# Altium schematic symbol library board.SchLib: 12 symbols
Pins are listed as number, name and electrical type; pins without a type are passive.

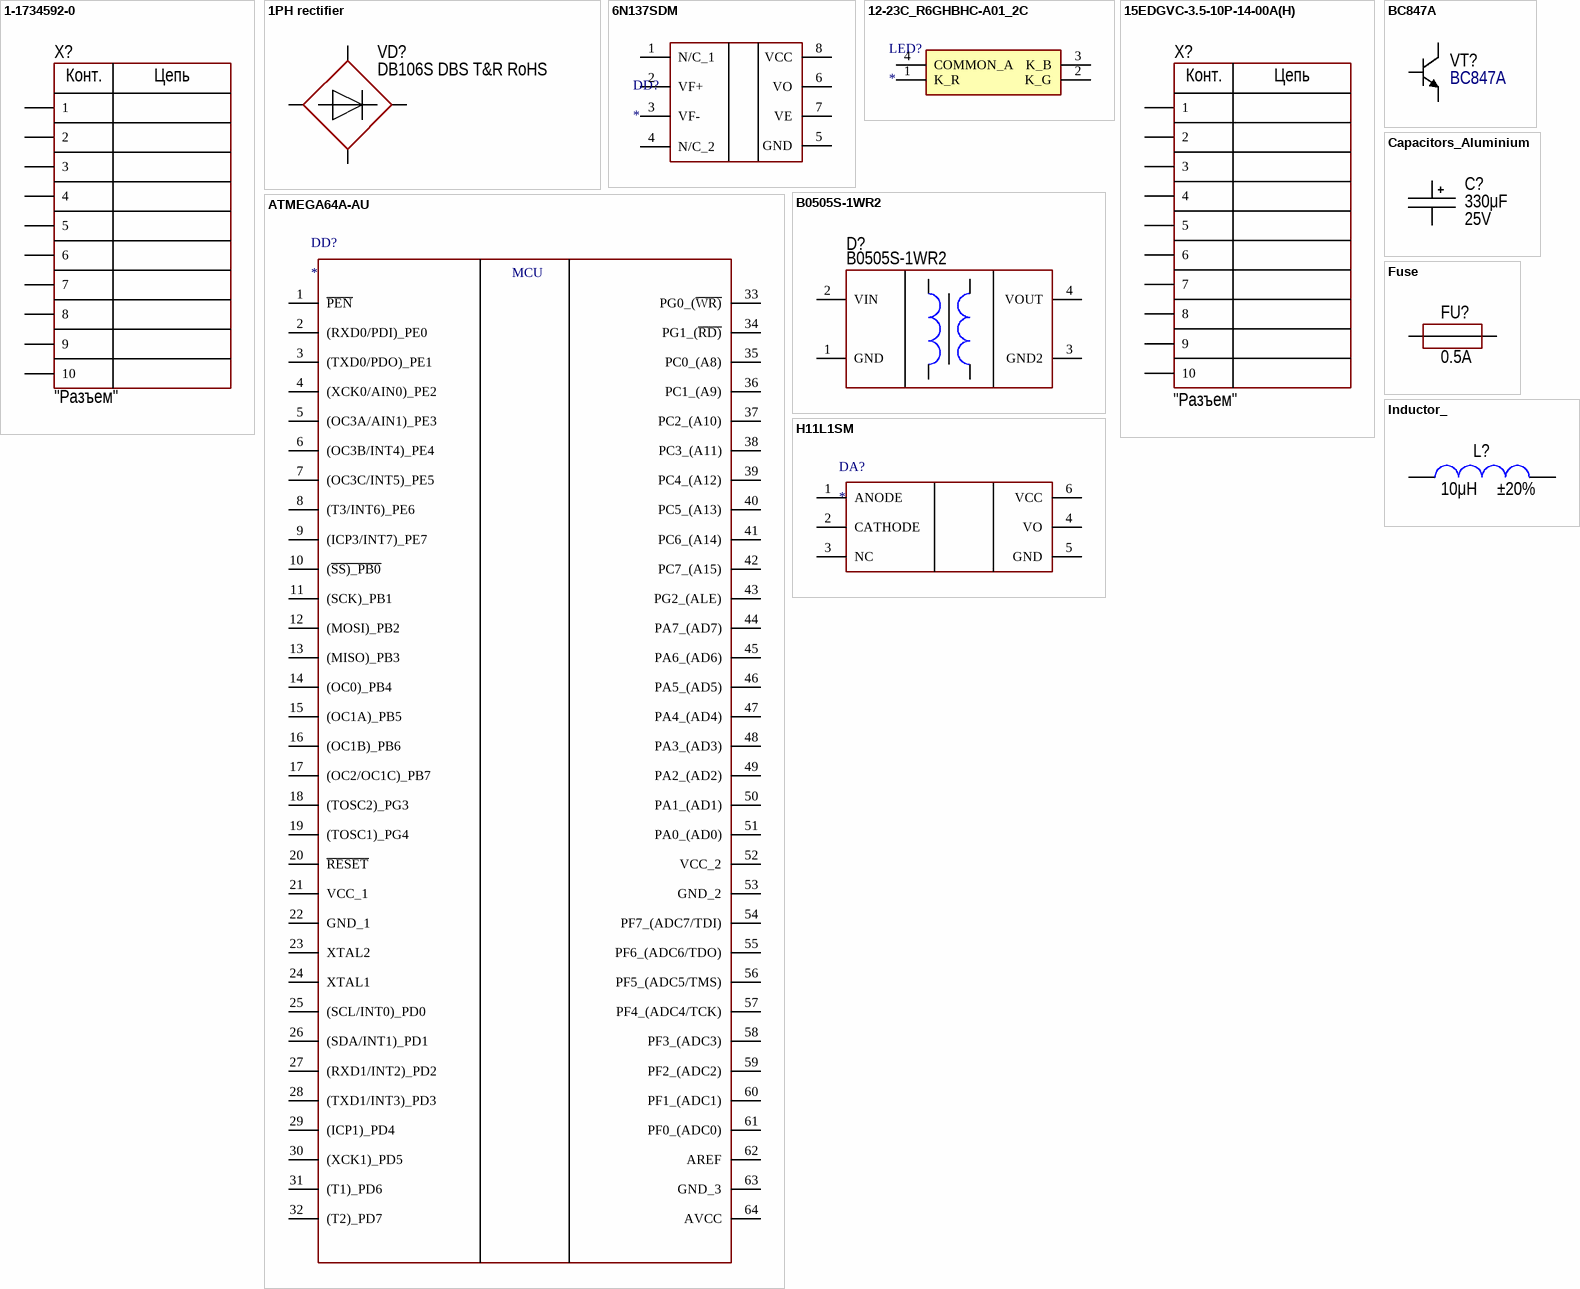
[diagram p0: symbols 1-1734592-0 to Inductor_]

## 1-1734592-0
designator X?  CommentText: "Разъем"
Manufacturer: TE Connectivity AMP Connectors; ValueManufacturerPartNumber: Connector, 10pin, 0.5mm, 250VAC, 0.5A; PartNumber: 1-1734592-0; TypeConnector: Connector; VoltageMax: 250VAC; Pitch: 0.5mm; CurrentMax: 0.5A; Multichannel: 10pin; HelpURL: https://www.digikey.com/en/products/detail/te-connectivity-amp-connectors/1-1734592-0/1860492
footprint 1-1734592-0
pins: 1, 2, 3 (power), 4 (power), 5 (power), 6 (power), 7 (power), 8 (power), 9 (power), 10 (power)
text: Конт.; Цепь

## 1PH rectifier
designator VD?  PartNumber: DB106S DBS T&R RoHS
Manufacturer: Kingtronics International; ValueManufacturerPartNumber: Single phase rectifier, 800V, 1A, 1.1V, 4-SMD, -55...+150°C; TypeDiode: Single phase rectifier; Voltage: 800V; Current: 1A; VoltageDrop: 1.1V; Package: 4-SMD; HelpURL: https://www.chipdip.ru/product/db106s-kingtronics?from=suggest_product; Temperature: -55...+150°C
footprint DIODE: DF206S-G
pins: 1, 2, 3, 4

## 6N137SDM
designator DD?
Integrated Circuit; Manufacturer_Name: ON Semiconductor; PartNumber: 6N137SDM; Datasheet Link: https://www.onsemi.com/pub/Collateral/HCPL2631M-D.pdf; Height: 5.08mm; Mouser Part Number: 512-6N137SDM; Mouser Price/Stock: https://www.mouser.co.uk/ProductDetail/ON-Semiconductor-Fairchild/6N137SDM?qs=wuRI32rFNSFC%252BTbDLj3kvw%3D%3D; Arrow Part Number: 6N137SDM; Arrow Price/Stock: https://www.arrow.com/en/products/6n137sdm/on-semiconductor?region=nac
footprint SOP254P1030X508-8N
pins: 1 N/C_1, 2 VF+, 3 VF-, 4 N/C_2, 5 GND, 6 VO, 7 VE, 8 VCC

## 12-23C_R6GHBHC-A01_2C
designator LED?
LED; Manufacturer_Name: Everlight; Manufacturer_Part_Number: 12-23C/R6GHBHC-A01/2C; Datasheet Link: https://www.mouser.com/datasheet/2/143/201407052004528767-596438.pdf; Height: 1mm; Mouser Part Number: 638-1223CR6GHBHCA01; Mouser Price/Stock: https://www.mouser.co.uk/ProductDetail/Everlight/12-23C-R6GHBHC-A01-2C?qs=8cKuZ6Ok2lYDdF2%2FKIJDyw%3D%3D; Arrow Part Number: 12-23C/R6GHBHC-A01/2C; Arrow Price/Stock: https://www.arrow.com/en/products/12-23cr6ghbhc-a012c/everlight-electronics
footprint 1223CR6GHBHCA012C
pins: 1 K_R, 2 K_G, 3 K_B, 4 COMMON_A

## 15EDGVC-3.5-10P-14-00A(H)
designator X?  CommentText: "Разъем"
Manufacturer: Degson; ValueManufacturerPartNumber: Terminal connector, 6pin, 3.5mm, 300VAC, 10A; PartNumber: 15EDGVC-3.5-10P-14-00A(H); TypeConnector: Terminal connector; VoltageMax: 300VAC; Pitch: 3.5mm; CurrentMax: 10A; Multichannel: 6pin
footprint CON: 15EDGVC-3.5-10P-14-00AH (Vertical PCB Header, pitch 3.5mm, 08p)
pins: 1, 2, 3 (power), 4 (power), 5 (power), 6 (power), 7 (power), 8 (power), 9 (power), 10 (power)
text: Конт.; Цепь

## ATMEGA64A-AU
designator DD?
Integrated Circuit; Manufacturer_Name: Microchip; Manufacturer_Part_Number: ATMEGA64A-AU; Datasheet Link: https://datasheet.datasheetarchive.com/originals/distributors/Datasheets_SAMA/61cd3663d987104d1956c12d3ceac457.pdf; Height: 1.2mm; Mouser Part Number: 556-ATMEGA64A-AU; Mouser Price/Stock: https://www.mouser.co.uk/ProductDetail/Microchip-Technology-Atmel/ATMEGA64A-AU?qs=RwPDB89%252B8xSA448I6y2Ecg%3D%3D; Part Number: ATMEGA64A-AU; Arrow Price/Stock: https://www.arrow.com/en/products/atmega64a-au/microchip-technology?region=nac
footprint QFP80P1600X1600X120-64N
pins: 1 ~{PEN}, 2 (RXD0/PDI)_PE0, 3 (TXD0/PDO)_PE1, 4 (XCK0/AIN0)_PE2, 5 (OC3A/AIN1)_PE3, 6 (OC3B/INT4)_PE4, 7 (OC3C/INT5)_PE5, 8 (T3/INT6)_PE6, 9 (ICP3/INT7)_PE7, 10 (~{SS)_PB0}, 11 (SCK)_PB1, 12 (MOSI)_PB2, 13 (MISO)_PB3, 14 (OC0)_PB4, 15 (OC1A)_PB5, 16 (OC1B)_PB6, 17 (OC2/OC1C)_PB7, 18 (TOSC2)_PG3, 19 (TOSC1)_PG4, 20 ~{RESET}, 21 VCC_1, 22 GND_1, 23 XTAL2, 24 XTAL1, 25 (SCL/INT0)_PD0, 26 (SDA/INT1)_PD1, 27 (RXD1/INT2)_PD2, 28 (TXD1/INT3)_PD3, 29 (ICP1)_PD4, 30 (XCK1)_PD5, 31 (T1)_PD6, 32 (T2)_PD7, 33 PG0_(~{WR)}, 34 PG1_(~{RD)}, 35 PC0_(A8), 36 PC1_(A9), 37 PC2_(A10), 38 PC3_(A11), 39 PC4_(A12), 40 PC5_(A13), 41 PC6_(A14), 42 PC7_(A15), 43 PG2_(ALE), 44 PA7_(AD7), 45 PA6_(AD6), 46 PA5_(AD5), 47 PA4_(AD4), 48 PA3_(AD3), 49 PA2_(AD2), 50 PA1_(AD1), 51 PA0_(AD0), 52 VCC_2, 53 GND_2, 54 PF7_(ADC7/TDI), 55 PF6_(ADC6/TDO), 56 PF5_(ADC5/TMS), 57 PF4_(ADC4/TCK), 58 PF3_(ADC3), 59 PF2_(ADC2), 60 PF1_(ADC1), 61 PF0_(ADC0), 62 AREF, 63 GND_3, 64 AVCC
text: MCU

## B0505S-1WR2
designator D?  PartNumber: B0505S-1WR2
DC/DC converter; Manufacturer: Mornsun; ValueManufacturerPartNumber: DC/DC converter, isolator, 5V 200mA, -40...+105°C, SIP-4; OutputType: isolator; OutputVoltage: 5V 200mA; HelpURL: https://www.chipdip.ru/product/b0505s-1wr2; Package: SIP-4; ComponentType: DC/DC converter; Temperature: -40...+105°C
footprint MOD: SIP-4 (B0505S-1W)
pins: 1 GND (power), 2 VIN (power), 3 GND2 (power), 4 VOUT (power)

## BC847A
designator VT?  PartNumber: BC847A
ValueManufacturerPartNumber: NPN transistor, 45V, 200mA, 100MHz, 300mW, 0.6V, 420, SOT-23, -55...+125°C; TypeTransistor: NPN transistor; VoltageCE: 45V; CurrentCE: 200mA; VoltageSaturation: 0.6V; Frequency: 100MHz; CurrentGain: 420; MaxPower: 300mW; Package: SOT-23; HelpURL: https://www.chipdip.ru/product/bc847a; Temperature: -55...+125°C
footprint SOT23
pins: 1 B, 2 C, 3 E

## Capacitors_Aluminium
designator C?  value 330μF  Voltage: 25V
Manufacturer: Wurth; PartNumber: 860080475013; ValueManufacturerPartNumber: Aluminium capacitor, 330μF, 25V, ±20%, 54mOhm, 14x10x5 mm, -55...+105°C; TypeCapacitor: Aluminium capacitor; Tolerance: ±20%; Impedance: 54mOhm; Package: 14x10x5 mm; HelpURL: https://www.digikey.com/product-detail/en/wurth-electronics-inc/860080475013/732-9029-1-ND/5728972; Temperature: -55...+105°C
footprint CAP: D10C5H16
footprint CAP: D5C2H11
footprint CAP: D6.3C2.5H11
footprint CAP: D10C5H20
footprint CAP: D8C3.5H12
pins: 1, 2

## Fuse
designator FU?  MaxCurrent: 0.5A
Manufacturer: KLS5-266 (FH-100); PartNumber: деражатель L-KLS5-266 / предохраниель 179020.0,5; TypeFuse: Electromechanics relay; VoltageMax: 250VAC; Package: 5x20mm; HelpURL: https://www.chipdip.ru/product/kls5-266-fh-100; ValueManufacturerPartNumber: =TypeFuse+', '+VoltageMax+', '+MaxCurrent+', '+Package+', '+Temperature
footprint FUSE: 1812
footprint FUSE: 1206
footprint FUSC7451X170N
footprint 1812L010DR
pins: 1, 2

## H11L1SM
designator DA?
Integrated Circuit; Manufacturer_Name: Iso Com; Manufacturer_Part_Number: H11L1SM; Datasheet Link: http://isocom.com/wp-content/uploads/2017/09/DD93224-H11L1_H11L1V-110817.pdf; Height: 4.6mm; PartNumber: H11L1SM
footprint SOP254P1030X460-6N
pins: 1 ANODE, 2 CATHODE, 3 NC, 4 VO, 5 GND, 6 VCC

## Inductor_
designator L?  value 10μH  Tolerance: ±20%
Manufacturer: Murata Electronics; PartNumber: LQM21FN100M70L; ValueManufacturerPartNumber: Fixed inductor, 10μH, ±20%, 0805, 100mA, -55...+125°C; TypeInductor: Fixed inductor; MaxCurrent: 100mA; Package: 0805; HelpURL: https://www.digikey.com/product-detail/en/murata-electronics-north-america/LQM21FN100M70L/490-4029-1-ND/1016289; Temperature: -55...+125°C
footprint IND: 0805 (Footprint not found)
footprint IND: SRP1038C
footprint IND: SDR0302
footprint CDRH8D28 (SMT power inductors)
footprint IND25X25CZ
footprint SDR2207101KL
footprint INDPM102100X400N
pins: 1, 2